# Altium integrated library lambda.IntLib: 3 symbols
Pins are listed as number, name and electrical type; pins without a type are passive.

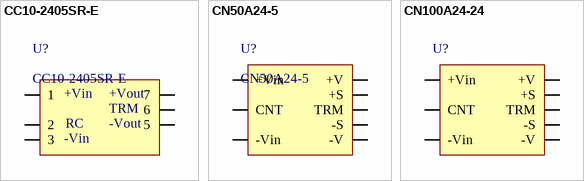
[diagram p0: symbols CC10-2405SR-E to CN100A24-24]

## CC10-2405SR-E
designator U?
footprint CC-E (DC-DC Converter)
pins: 1, 2, 3, 5, 6, 7
text: +Vin; +Vout; TRM; RC; -Vout; -Vin

## CN50A24-5
designator U?
Lambda 5V Supply
footprint CN[50,100]A24
pins: 1 -Vin, 2 CNT, 3 +Vin, 4 -V, 5 -S, 6 TRM, 7 +S, 8 +V

## CN100A24-24
designator U?  (value not drawn)
Lambda 24 V Supply
footprint CN[50,100]A24
pins: 1 -Vin, 2 CNT, 3 +Vin, 4 -V, 5 -S, 6 TRM, 7 +S, 8 +V